# Altium footprint library SMD-IC  0607.PcbLib: 125 footprints (part 3 of 8)
Each footprint in its own frame and in the unit in brackets; x right, y up, seen from the top. Pads: shape width x height; smd on the part's side, far side on the other; paste and mask are expansions set on the pad; w line width, h text height; cw(c..) or ccw(c..) is an arc to the next point about the centre after c.
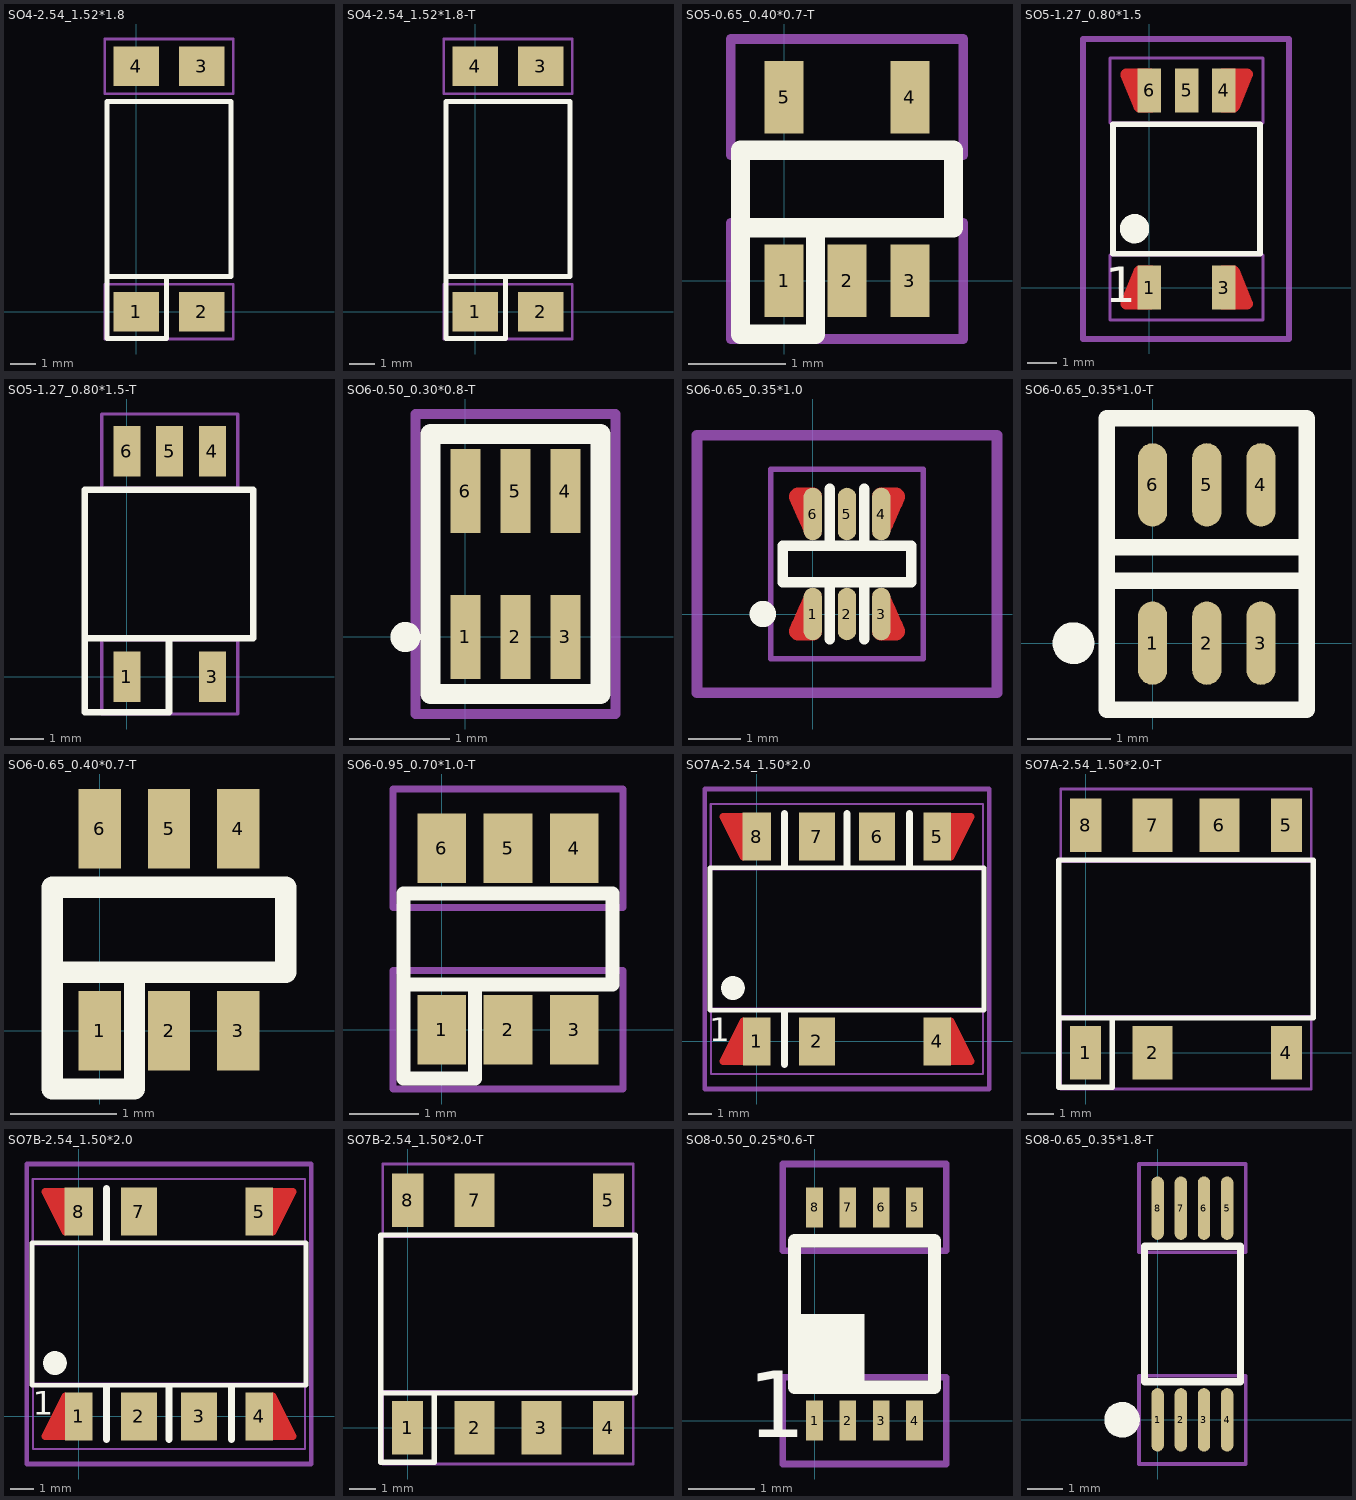
[diagram p2: the footprints below, top view; thin cyan lines are the x and y axes]

## SO4-2.54_1.52*1.8 [mm] "TCLT1010"
height 2.3
pads (4):
  rect 1.78x1.52 smd: 1(0,0) 2(2.54,0) 3(2.54,9.52) 4(0,9.52)
Top Overlay:
  lines w0.2: 1.17,1.36 1.17,-1.04 -1.13,-1.04 -1.13,1.36 ; -1.13,1.36 -1.13,8.16 3.67,8.16 3.67,1.36 -1.13,1.36
Mechanical 15:
  lines w0.1: -1.225,-1.06 -1.225,1.06 3.765,1.06 3.765,-1.06 -1.225,-1.06 ; -1.225,8.46 3.765,8.46 3.765,10.58 -1.225,10.58 -1.225,8.46

## SO4-2.54_1.52*1.8-T [mm]
height 2.3
pads (4):
  rect 1.78x1.52 smd: 1(0,0) 2(2.54,0) 3(2.54,9.52) 4(0,9.52)
Top Overlay:
  lines w0.2: 1.17,1.36 1.17,-1.04 -1.13,-1.04 -1.13,1.36 ; -1.13,1.36 3.67,1.36 3.67,8.16 -1.13,8.16 -1.13,1.36
Mechanical 15:
  lines w0.1: -1.225,-1.06 3.765,-1.06 3.765,1.06 -1.225,1.06 -1.225,-1.06 ; -1.225,8.46 -1.225,10.58 3.765,10.58 3.765,8.46 -1.225,8.46

## SO5-0.65_0.40*0.7-T [mm] "LMX331/LMX331H"
height 1.1
pads (5):
  rect 0.4x0.75 smd: 1(0,0) 2(0.65,0) 3(1.3,0) 4(1.3,1.9) 5(0,1.9)
Top Overlay:
  lines w0.2: -0.45,0.55 1.75,0.55 1.75,1.35 -0.45,1.35 -0.45,-0.55 0.325,-0.55 0.325,0.55
Mechanical 15:
  lines w0.1: -0.55,-0.6 1.85,-0.6 1.85,0.6 -0.55,0.6 -0.55,-0.6 ; -0.55,1.3 -0.55,2.5 1.85,2.5 1.85,1.3 -0.55,1.3

## SO5-1.27_0.80*1.5 [mm] "2310070108"
height 2.5
pads (5):
  rect 0.8x1.5 smd: 1(0,0) 3(2.54,0) 4(2.54,6.7) 5(1.27,6.7) 6(0,6.7)
Top Layer:
  lines w0.4: -0.41,-0.55 -0.41,0.075 ; -0.41,6.625 -0.41,7.25 ; 0.04,-0.55 -0.785,-0.55 -0.335,0.55 0.05,0.55 ; 0.04,7.25 -0.785,7.25 -0.335,6.15 0.05,6.15 ; 2.49,0.55 2.875,0.55 3.325,-0.55 2.5,-0.55 ; 2.49,6.15 2.875,6.15 3.325,7.25 2.5,7.25 ; 2.95,-0.55 2.95,0.075 ; 2.95,6.625 2.95,7.25
Top Overlay:
  circle w0.5: c-0.5,2 r0.25
  lines w0.2: -1.23,1.15 -1.23,5.55 3.77,5.55 3.77,1.15 -1.23,1.15
  text "1" at -1.5,-0.5 h1.2
Top Solder:
  lines w0.4: -0.41,-0.55 -0.41,0.075 ; -0.41,6.625 -0.41,7.25 ; 0.04,-0.55 -0.785,-0.55 -0.335,0.55 0.05,0.55 ; 0.04,7.25 -0.785,7.25 -0.335,6.15 0.05,6.15 ; 2.49,0.55 2.875,0.55 3.325,-0.55 2.5,-0.55 ; 2.49,6.15 2.875,6.15 3.325,7.25 2.5,7.25 ; 2.95,-0.55 2.95,0.075 ; 2.95,6.625 2.95,7.25
Mechanical 8:
  lines w0.2: -2.25,-1.75 4.75,-1.75 4.75,8.45 -2.25,8.45 -2.25,-1.75
Mechanical 16:
  lines w0.1: -1.335,-1.1 3.875,-1.1 3.875,1.1 -1.335,1.1 -1.335,-1.1 ; -1.335,5.6 -1.335,7.8 3.875,7.8 3.875,5.6 -1.335,5.6

## SO5-1.27_0.80*1.5-T [mm] "2310070108"
height 2.5
pads (5):
  rect 0.8x1.5 smd: 1(0,0) 3(2.54,0) 4(2.54,6.7) 5(1.27,6.7) 6(0,6.7)
Top Overlay:
  lines w0.2: -1.25,1.15 3.75,1.15 3.75,5.55 -1.25,5.55 -1.25,-1.05 1.25,-1.05 1.25,1.1
Mechanical 15:
  lines w0.1: -0.75,-1.1 3.29,-1.1 3.29,1.1 -0.75,1.1 -0.75,-1.1 ; -0.75,5.6 -0.75,7.8 3.29,7.8 3.29,5.6 -0.75,5.6

## SO6-0.50_0.30*0.8-T [mm] "U?"
height 0.6
pads (6):
  rect 0.3x0.84 smd: 1(0,0) 2(0.5,0) 3(1,0) 4(1,1.46) 5(0.5,1.46) 6(0,1.46)
Top Overlay:
  circle w0.2: c-0.6,0 r0.05
  lines w0.2: -0.35,-0.57 1.35,-0.57 1.35,0.73 1.35,2.03 -0.35,2.03 -0.35,-0.57
Mechanical 15:
  lines w0.1: -0.5,-0.77 -0.5,2.23 1.5,2.23 1.5,-0.77 -0.5,-0.77

## SO6-0.65_0.35*1.0 [mm]
height 1.1
pads (6):
  oval 0.35x1 smd: 1(0,0) 2(0.65,0) 3(1.3,0) 4(1.3,1.9) 5(0.65,1.9) 6(0,1.9)
Top Layer:
  lines w0.35: 0,-0.325 -0.275,-0.325 -0.236,-0.236 -0.132,0 -0.111,0.049 0,0.3 ; 0,1.6 -0.092,1.808 -0.111,1.851 -0.25,2.168 -0.275,2.225 -0.25,2.225 0,2.225 ; 1.3,-0.325 1.575,-0.325 1.536,-0.236 1.432,0 1.411,0.049 1.3,0.3 ; 1.3,1.6 1.354,1.722 1.392,1.808 1.399,1.824 1.411,1.851 1.432,1.9 1.536,2.136 1.575,2.225 1.3,2.225
Top Overlay:
  circle w0.3: c-0.95,0 r0.1
  lines w0.2: 0.325,-0.475 0.325,0.6 ; 0.325,1.3 0.325,2.375 ; 0.975,-0.475 0.975,0.6 ; 0.975,1.3 0.975,2.375 ; -0.575,0.6 1.875,0.6 1.875,1.3 -0.575,1.3 -0.575,0.6
Top Solder:
  lines w0.35: 0,-0.325 -0.275,-0.325 0,0.3 ; 0,1.6 -0.275,2.225 0,2.225 ; 1.3,-0.325 1.575,-0.325 1.3,0.3 ; 1.3,1.6 1.575,2.225 1.3,2.225
Mechanical 8:
  lines w0.2: -2.2,-1.5 -2.2,3.4 3.5,3.4 3.5,-1.5 -2.2,-1.5
Mechanical 16:
  lines w0.1: -0.8,-0.85 2.1,-0.85 2.1,2.75 -0.8,2.75 -0.8,-0.85

## SO6-0.65_0.35*1.0-T [mm] "SC70;SC-88"
height 1.1
pads (6):
  oval 0.35x1 smd: 1(0,0) 2(0.65,0) 3(1.3,0) 4(1.3,1.9) 5(0.65,1.9) 6(0,1.9)
Top Overlay:
  circle w0.3: c-0.95,0 r0.1
  lines w0.2: -0.55,0.75 1.85,0.75 ; -0.55,1.15 1.85,1.15 ; -0.55,-0.8 1.85,-0.8 1.85,2.7 -0.55,2.7 -0.55,-0.8
Mechanical 15:
  lines w0.1: -0.525,-0.85 1.825,-0.85 1.825,2.75 -0.525,2.75 -0.525,-0.85

## SO6-0.65_0.40*0.7-T [mm] "SOT363;SC-88"
height 0.95
pads (6):
  rect 0.4x0.75 smd: 1(0,0) 2(0.65,0) 3(1.3,0) 4(1.3,1.9) 5(0.65,1.9) 6(0,1.9)
Top Overlay:
  lines w0.2: -0.45,0.55 1.75,0.55 1.75,1.35 -0.45,1.35 -0.45,-0.55 0.325,-0.55 0.325,0.55

## SO6-0.95_0.70*1.0-T [mm] "FDC6333C"
height 1
pads (6):
  rect 0.7x1 smd: 1(0,0) 2(0.95,0) 3(1.9,0) 4(1.9,2.6) 5(0.95,2.6) 6(0,2.6)
Top Overlay:
  lines w0.2: -0.55,0.65 2.45,0.65 2.45,1.95 -0.55,1.95 -0.55,-0.7 0.475,-0.7 0.475,0.65
Mechanical 15:
  lines w0.1: -0.7,-0.85 2.6,-0.85 2.6,0.85 -0.7,0.85 -0.7,-0.85 ; -0.7,1.75 -0.7,3.45 2.6,3.45 2.6,1.75 -0.7,1.75

## SO7A-2.54_1.50*2.0 [mil]
height 151.57
pads (7):
  rect 45.98x80 smd: 1(0,0) 4(300,0) 5(300,340)
  rect 60x80 smd: 2(100,0) 6(200,340) 7(100,340)
  rect 47.24x80 smd: 8(0,340)
Top Layer:
  lines w11.81: -42.32,-25.59 -42.32,-10.83 ; -42.32,350.83 -42.32,365.59 ; -32.48,-28.54 -32.48,9.84 ; -32.48,330.16 -32.48,368.54 ; 332.48,-28.54 332.48,9.84 ; 332.48,330.16 332.48,368.54 ; 342.32,-25.59 342.32,-10.83 ; 342.32,350.83 342.32,365.59 ; -56.1,-33.46 -22.64,33.46 -22.64,-33.46 -56.1,-33.46 ; -56.1,373.46 -22.64,373.46 -22.64,306.54 -56.1,373.46 ; 322.64,-33.46 356.1,-33.46 322.64,33.46 322.64,-33.46 ; 322.64,306.54 356.1,373.46 322.64,373.46 322.64,306.54
Top Overlay:
  circle w19.68: c-39.37,88.58 r9.84
  lines w7.87: -77.36,51.89 -77.36,288.11 377.36,288.11 377.36,51.89 -77.36,51.89
  lines w11.81: 46.26,-38.66 46.26,49.21 ; 46.26,290.79 46.26,378.66 ; 150,290.79 150,378.66 ; 253.74,290.79 253.74,378.66
  text "1" at -78.74,0 h39.37
Top Solder:
  lines w11.81: -42.32,-25.59 -42.32,-10.83 ; -42.32,350.83 -42.32,365.59 ; -32.48,-28.54 -32.48,9.84 ; -32.48,330.16 -32.48,368.54 ; 332.48,-28.54 332.48,9.84 ; 332.48,330.16 332.48,368.54 ; 342.32,-25.59 342.32,-10.83 ; 342.32,350.83 342.32,365.59 ; -56.1,-33.46 -22.64,-33.46 -22.64,33.46 -56.1,-33.46 ; -56.1,373.46 -22.64,306.54 -22.64,373.46 -56.1,373.46 ; 322.64,-33.46 322.64,33.46 356.1,-33.46 322.64,-33.46 ; 322.64,306.54 322.64,373.46 356.1,373.46 322.64,306.54
Mechanical 8:
  lines w7.87: -86.22,-79.02 386.22,-79.02 386.22,419.02 -86.22,419.02 -86.22,-79.02
Mechanical 16:
  lines w3.94: -75.98,285.87 -75.98,394.13 375.79,394.13 375.79,285.87 -75.98,285.87 ; -75.79,-54.13 375.79,-54.13 375.79,54.13 -75.79,54.13 -75.79,-54.13

## SO7A-2.54_1.50*2.0-T [mil]
height 151.57
pads (7):
  rect 45.98x80 smd: 1(0,0) 4(300,0) 5(300,340)
  rect 60x80 smd: 2(100,0) 6(200,340) 7(100,340)
  rect 47.24x80 smd: 8(0,340)
Top Overlay:
  lines w7.87: -39.96,51.89 339.96,51.89 339.96,288.11 -39.96,288.11 -39.96,-51.46 39.96,-51.46 39.96,51.89
Mechanical 15:
  lines w3.94: -37.4,-54.13 337.4,-54.13 337.4,54.13 -37.4,54.13 -37.4,-54.13 ; -37.4,285.87 -37.4,394.13 337.4,394.13 337.4,285.87 -37.4,285.87

## SO7B-2.54_1.50*2.0 [mil]
height 151.57
pads (7):
  rect 45.98x80 smd: 1(0,0) 4(300,0) 5(300,340)
  rect 60x80 smd: 2(100,0) 3(200,0) 7(100,340)
  rect 47.24x80 smd: 8(0,340)
Top Layer:
  lines w11.81: -42.32,-25.59 -42.32,-10.83 ; -42.32,350.83 -42.32,365.59 ; -32.48,-28.54 -32.48,9.84 ; -32.48,330.16 -32.48,368.54 ; 332.48,-28.54 332.48,9.84 ; 332.48,330.16 332.48,368.54 ; 342.32,-25.59 342.32,-10.83 ; 342.32,350.83 342.32,365.59 ; -56.1,-33.46 -22.64,-33.46 -22.64,33.46 -56.1,-33.46 ; -56.1,373.46 -22.64,306.54 -22.64,373.46 -56.1,373.46 ; 322.64,-33.46 322.64,33.46 356.1,-33.46 322.64,-33.46 ; 322.64,306.54 322.64,373.46 356.1,373.46 322.64,306.54
Top Overlay:
  circle w19.68: c-39.37,88.58 r9.84
  lines w7.87: -77.36,51.89 -77.36,288.11 377.36,288.11 377.36,51.89 -77.36,51.89
  lines w11.81: 46.26,-38.66 46.26,49.21 ; 46.26,290.79 46.26,378.66 ; 150,-38.66 150,49.21 ; 253.74,-38.66 253.74,49.21
  text "1" at -76.38,2.68 h39.37
Top Solder:
  lines w11.81: -42.32,-25.59 -42.32,-10.83 ; -42.32,350.83 -42.32,365.59 ; -32.48,-28.54 -32.48,9.84 ; -32.48,330.16 -32.48,368.54 ; 332.48,-28.54 332.48,9.84 ; 332.48,330.16 332.48,368.54 ; 342.32,-25.59 342.32,-10.83 ; 342.32,350.83 342.32,365.59 ; -56.1,-33.46 -22.64,33.46 -22.64,-33.46 -56.1,-33.46 ; -56.1,373.46 -22.64,373.46 -22.64,306.54 -56.1,373.46 ; 322.64,-33.46 356.1,-33.46 322.64,33.46 322.64,-33.46 ; 322.64,306.54 356.1,373.46 322.64,373.46 322.64,306.54
Mechanical 8:
  lines w7.87: -86.22,-79.02 -86.22,419.02 386.22,419.02 386.22,-79.02 -86.22,-79.02
Mechanical 16:
  lines w3.94: -75.98,285.87 375.79,285.87 375.79,394.13 -75.98,394.13 -75.98,285.87 ; -75.79,-54.13 -75.79,54.13 375.79,54.13 375.79,-54.13 -75.79,-54.13

## SO7B-2.54_1.50*2.0-T [mil]
height 151.57
pads (7):
  rect 45.98x80 smd: 1(0,0) 4(300,0) 5(300,340)
  rect 60x80 smd: 2(100,0) 3(200,0) 7(100,340)
  rect 47.24x80 smd: 8(0,340)
Top Overlay:
  lines w7.87: -39.96,51.89 339.96,51.89 339.96,288.11 -39.96,288.11 -39.96,-51.46 39.96,-51.46 39.96,51.89
Mechanical 15:
  lines w3.94: -37.4,-54.13 -37.4,54.13 337.4,54.13 337.4,-54.13 -37.4,-54.13 ; -37.4,285.87 337.4,285.87 337.4,394.13 -37.4,394.13 -37.4,285.87

## SO8-0.50_0.25*0.6-T [mm]
height 0.9
pads (8):
  rect 0.25x0.6 smd: 1(0,0) 2(0.5,0) 3(1,0) 4(1.5,0) 5(1.5,3.2) 6(1,3.2) 7(0.5,3.2) 8(0,3.2)
Top Overlay:
  rectangle: -0.3,0.4 0.75,1.6
  lines w0.2: -0.3,0.5 -0.3,2.7 1.8,2.7 1.8,0.5 -0.3,0.5
  text "1" at -1,-0.25 h1
Mechanical 15:
  lines w0.1: -0.475,-0.65 1.975,-0.65 1.975,0.65 -0.475,0.65 -0.475,-0.65 ; -0.475,2.55 -0.475,3.85 1.975,3.85 1.975,2.55 -0.475,2.55

## SO8-0.65_0.35*1.8-T [mm]
height 1.1
pads (8):
  oval 0.35x1.78 smd: 1(0,0) 2(0.65,0) 3(1.3,0) 4(1.95,0) 5(1.95,5.94) 6(1.3,5.94) 7(0.65,5.94) 8(0,5.94)
Top Overlay:
  circle w0.5: c-1,0 r0.25
  lines w0.2: -0.375,1.07 -0.375,4.87 2.325,4.87 2.325,1.07 -0.375,1.07
Mechanical 15:
  lines w0.1: -0.525,-1.24 -0.525,1.24 2.475,1.24 2.475,-1.24 -0.525,-1.24 ; -0.525,4.7 2.475,4.7 2.475,7.18 -0.525,7.18 -0.525,4.7